# EAGLE library part TERM-BLOCK-COMP (library acs)
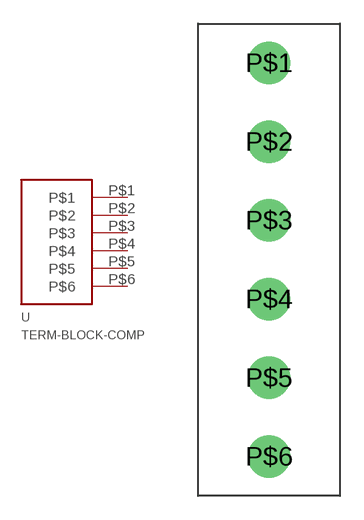
[diagram p0: symbol with the pads of TERM-BLOCK-GEO; footprint TERM-BLOCK-GEO]

Designator prefix -

## TERM-BLOCK-COMP  [TERM-BLOCK-GEO]
P$1  P$1
P$2  P$2
P$3  P$3
P$4  P$4
P$5  P$5
P$6  P$6

## Footprint TERM-BLOCK-GEO (pad centres in mm)
drill 1.8: P$1 0,0; P$2 0,-5; P$3 0,-10; P$4 0,-15; P$5 0,-20; P$6 0,-25